# EAGLE library part 691401710005 (library Wurth_Elektronik_Electromechanic_Terminal_Blocks_Connectors_rev15c)
WR-TBL Terminal block - serie 401 5,0mm - Spring clamp/Screw less - horizontal entry - 05p Code:Con_TBL_Screwless_5.00_6914017100xxB_691401710005 <http://katalog.we-online.de/media/images/eican/Con_TBL_Screwless_5.00_6914017100xxB_pf2.jpg> Details see: http://katalog.we-online.de/en/em/691_401_710_0xx/691_401_710_005B?m Created 2014-12-22, aslant tao 2014 (C) Würth Elektronik
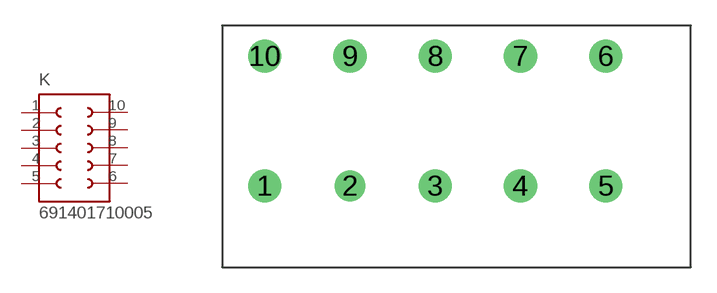
[diagram p234: symbol with the pads of 691401710005; footprint 691401710005]

Designator prefix K

## 691401710005  [691401710005]
1  1  pas
2  2  pas
3  3  pas
4  4  pas
5  5  pas
6  6  pas
7  7  pas
8  8  pas
9  9  pas
10  10  pas

## Footprint 691401710005 (pad centres in mm)
WR-TBL Serie 401 - 5.0mm Screwless Horizontal Entry - 2 mm2 Wires, 5 Pins
drill 1.3: 1 -15,0; 3 -5,0; 4 0,0; 5 5,0; 6 5,7.62; 7 0,7.62; 8 -5,7.62; 9 -10,7.62; 10 -15,7.62
drill 1.2: 2 -10,0